# EAGLE library part PRESSURE-FREESCALE-MPL115A1 (library Pygmy)
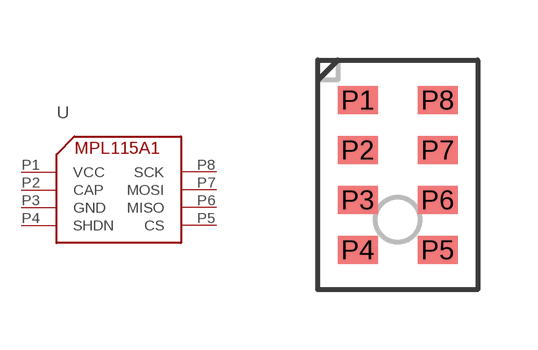
[diagram p57: symbol with the pads of LGA8; footprint LGA8]

Designator prefix -

## PRESSURE-FREESCALE-MPL115A1  [LGA8]
P1  VCC
P2  CAP
P3  GND
P4  SHDN
P5  CS
P6  MISO
P7  MOSI
P8  SCK

## Footprint LGA8 (pad centres in mm)
smd 1 x 0.7: P1 -1,3.75; P2 -1,2.5; P3 -1,1.25; P4 -1,0; P5 1,0; P6 1,1.25; P7 1,2.5; P8 1,3.75